# Altium schematic symbol library Compute.SchLib: 10 symbols
Pins are listed as number, name and electrical type; pins without a type are passive.

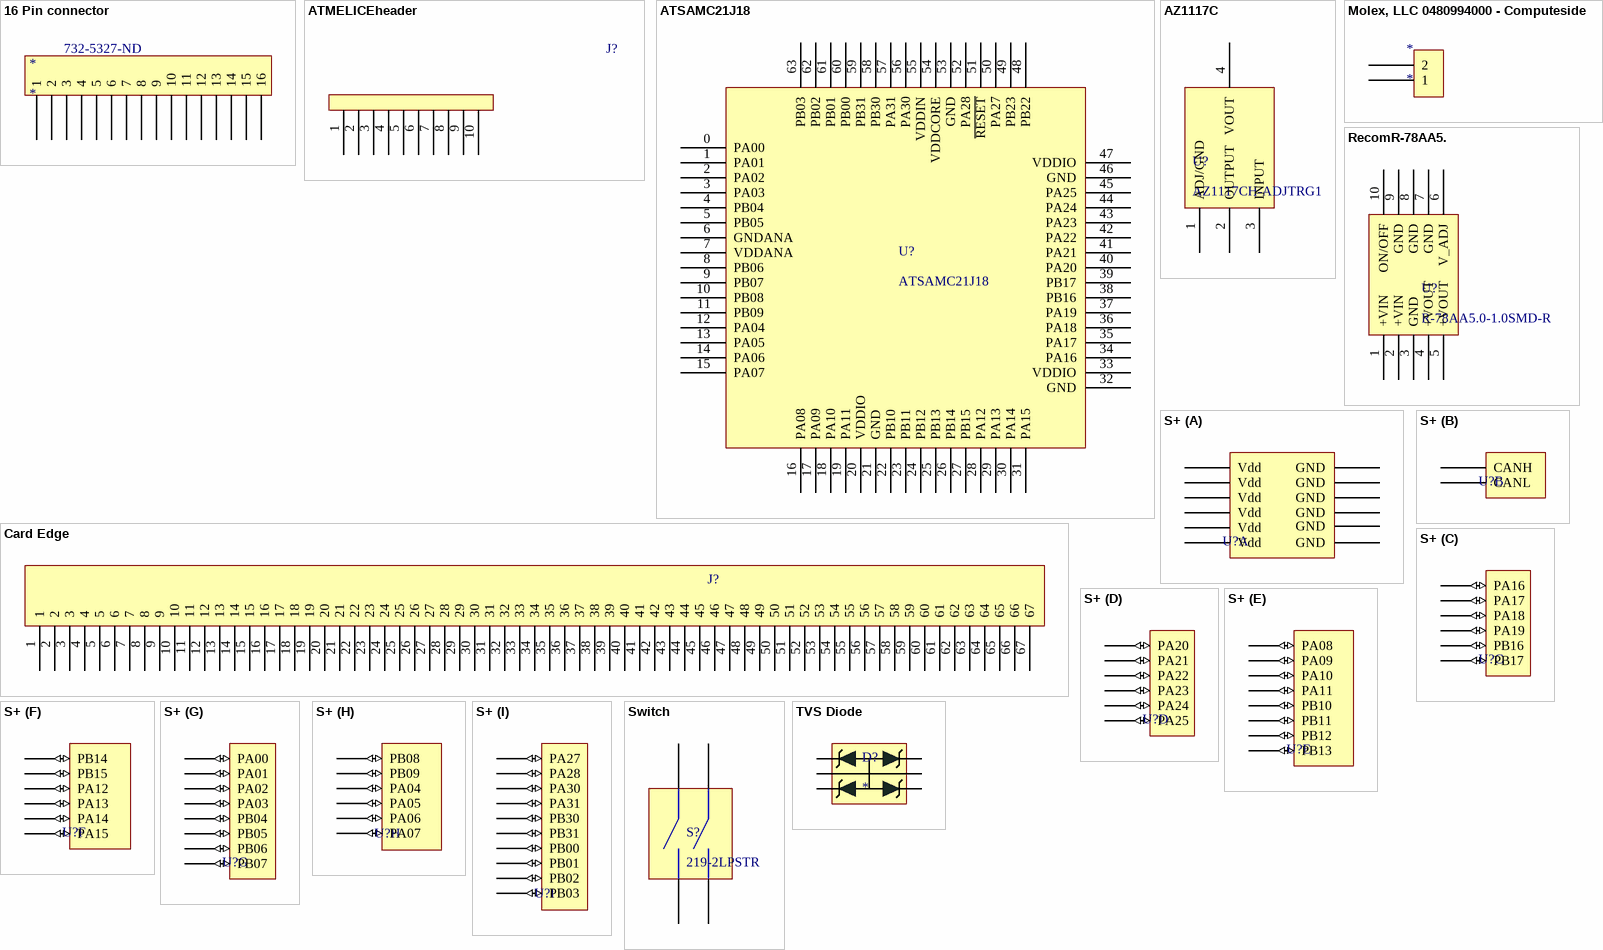
[diagram p0: symbols 16 Pin connector to TVS Diode]

## 16 Pin connector
designator *  Supplier Part Number 1: 732-5327-ND
Supplier 1: Digi-Key
footprint 16 Pin Connector_PCB
pins: 1, 2, 3, 4, 5, 6, 7, 8, 9, 10, 11, 12, 13, 14, 15, 16

## ATMELICEheader
designator J?, comment 50mil-10pin  (value not drawn)
CONN HEADER 10POS .100 STR TIN; Digi-Key: https://www.digikey.com/product-detail/en/amphenol-fci/20021111-00010T4LF/609-3712-ND/2209072; Datasheet: https://cdn.amphenol-icc.com/media/wysiwyg/files/drawing/20021111.pdf
footprint JTAGICE3
pins: 1, 2, 3, 4 83, 5 84, 6 85, 7 86, 8 87, 9 88, 10 89

## ATSAMC21J18
designator U?
IC MCU 32BIT 256KB FLASH 64TQFP; DIGI-KEY: https://www.digikey.com/product-detail/en/microchip-technology/ATSAMC21J18A-AUT/ATSAMC21J18A-AUTTR-ND/5875971; DATA SHEET: http://www.mouser.com/ds/2/36/Atmel-42365-SAMC21_Datasheet-894213.pdf
footprint Quad64 - duplicate3
pins: 0 PA00, 1 PA01, 2 PA02, 3 PA03, 4 PB04, 5 PB05, 6 GNDANA, 7 VDDANA, 8 PB06, 9 PB07, 10 PB08, 11 PB09, 12 PA04, 13 PA05, 14 PA06, 15 PA07, 16 PA08, 17 PA09, 18 PA10, 19 PA11, 20 VDDIO, 21 GND, 22 PB10, 23 PB11, 24 PB12, 25 PB13, 26 PB14, 27 PB15, 28 PA12, 29 PA13, 30 PA14, 31 PA15, 32 GND, 33 VDDIO, 34 PA16, 35 PA17, 36 PA18, 37 PA19, 38 PB16, 39 PB17, 40 PA20, 41 PA21, 42 PA22, 43 PA23, 44 PA24, 45 PA25, 46 GND, 47 VDDIO, 48 PB22, 49 PB23, 50 PA27, 51 ~{RESET}, 52 PA28, 53 GND, 54 VDDCORE, 55 VDDIN, 56 PA30, 57 PA31, 58 PB30, 59 PB31, 60 PB00, 61 PB01, 62 PB02, 63 PB03

## AZ1117C
designator U?, comment AZ1117CH-ADJTRG1
IC REG LIN POS ADJ 800MA SOT223; Digi-Key: https://www.digikey.com.au/product-detail/en/diodes-incorporated/AZ1117CH-ADJTRG1/AZ1117CH-ADJTRG1DICT-ND/4505208; datasheet: https://www.diodes.com/assets/Datasheets/AZ1117C.pdf
footprint Lin Power Supply (IC REG LIN POS ADJ 800MA SOT223)
pins: 1 ADJ/GND, 2 OUTPUT, 3 INPUT, 4 VOUT

## Card Edge
designator J?, comment SM3ZS067U410AMR1000  (value not drawn)
M.2 PCB Edge Contacts; Datasheet: https://media.digikey.com/pdf/Data%20Sheets/JAE%20PDFs/SM3ZS067U410__Dwg.pdf; DigiKey: https://www.digikey.com/product-detail/en/jae-electronics/SM3ZS067U410AMR1000/670-2693-1-ND/4162231
footprint M.2 Edge Connector
pins: 1, 2, 3, 4, 5, 6, 7, 8, 9, 10, 11, 12, 13, 14, 15, 16, 17, 18, 19, 20, 21, 22, 23, 24, 25, 26, 27, 28, 29, 30, 31, 32, 33, 34, 35, 36, 37, 38, 39, 40, 41, 42, 43, 44, 45, 46, 47, 48, 49, 50, 51, 52, 53, 54, 55, 56, 57, 58, 59, 60, 61, 62, 63, 64, 65, 66, 67

## Molex, LLC 0480994000 - Computeside
designator *
footprint Molex, LLC 0480994000 - Computeside
pins: 1, 2

## RecomR-78AA5.
designator U?, comment R-78AA5.0-1.0SMD-R
CONV DC/DC 1A 5V OUT SMD; Digi-Key: https://www.digikey.com/product-detail/en/recom-power/R-78AA5.0-1.0SMD-R/945-1044-1-ND/2256550?WT.srch=1&gclid=EAIaIQobChMIxpaysLGi1gIVk2V-Ch10ogITEAAYASAAEgKKzvD_BwE; Data Sheet: https://www.recom-power.com/pdf/Innoline/R-78AAxx-1.0SMD.pdf
footprint RecomR78
pins: 1 +VIN, 2 +VIN, 3 GND, 4 +VOUT, 5 +VOUT, 6 V_ADJ, 7 GND, 8 GND, 9 GND, 10 ON/OFF

## S+
designator U?  (value not drawn)
Need to get 4 of PPPC161LFBN-RC; Digi-key: https://www.digikey.com/product-detail/en/sullins-connector-solutions/PPPC161LFBN-RC/S7049-ND/810188; datasheet: https://media.digikey.com/pdf/Data%20Sheets/Sullins%20PDFs/Female_Headers.100_DS.pdf
footprint Compute S+
part A pins: GND, GND, GND, GND, GND, GND, Vdd, Vdd, Vdd, Vdd, Vdd, Vdd
part B pins: CANH, CANL
part C pins: PA16 (io), PA17 (io), PA18 (io), PA19 (io), PB16 (io), PB17 (io)
part D pins: PA20 (io), PA21 (io), PA22 (io), PA23 (io), PA24 (io), PA25 (io)
part E pins: PA08 (io), PA09 (io), PA10 (io), PA11 (io), PB10 (io), PB11 (io), PB12 (io), PB13 (io)
part F pins: PA12 (io), PA13 (io), PA14 (io), PB09 PA15 (io), PB14 (io), PB15 (io)
part G pins: PA00 (io), PA01 (io), PA02 (io), PA03 (io), PB04 (io), PB05 (io), PB06 (io), PB07 (io)
part H pins: PA04 (io), PA05 (io), PA06 (io), PA07 (io), PB08 (io), PB09 (io)
part I pins: PA27 (io), PA28 (io), PA30 (io), PA31 (io), PB00 (io), PB01 (io), PB02 (io), PB03 (io), PB30 (io), PB31 (io)
1 alternate drawing of the same symbol

## Switch
designator S?, comment 219-2LPSTR
SWITCH SLIDE DIP SPST 100MA 20V; Digi-Key: https://www.digikey.com/product-detail/en/cts-electrocomponents/219-2LPSTR/CT3113CT-ND/5875765; Datasheet: https://www.ctscorp.com/wp-content/uploads/219.pdf
footprint switch
pins: 1 77, 2 78, 3 75, 4 74

## TVS Diode
designator D?
ESDA6V1BC6; Datasheet: http://www.st.com/content/ccc/resource/technical/document/datasheet/21/07/21/e3/a8/df/42/a2/CD00001906.pdf/files/CD00001906.pdf/jcr:content/translations/en.CD00001906.pdf; DigiKey: https://www.digikey.com/product-detail/en/stmicroelectronics/ESDA6V1BC6/497-6635-1-ND/1865413; Supplier 1: Digi-Key; Supplier Part Number 1: 497-6635-6-ND
footprint SOT-23-6
pins: 1 158, 2 160, 3 159, 4 163, 5 162, 6 161